# Altium schematic symbol library HCPL-2211-300E.SchLib: 1 symbol
Pins are listed as number, name and electrical type; pins without a type are passive.

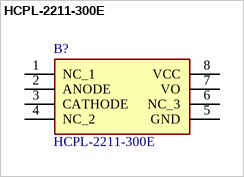
[diagram p0: symbol HCPL-2211-300E]

## HCPL-2211-300E
designator B?
Broadcom, HCPL-2211-300E DC Input Logic Gate Output Optocoupler, Surface Mount, 8-Pin DIP; Manufacturer_Name: Avago Technologies; Geometry.Height: 4.455mm; Manufacturer_Part_Number: HCPL-2211-300E; Mouser Part Number: 630-HCPL-2211-300E; Mouser Price/Stock: https://www.mouser.co.uk/ProductDetail/Broadcom-Avago/HCPL-2211-300E?qs=xnajaXqBF9%252BPSYdymxWXoA%3D%3D; Arrow Part Number: *; Arrow Price/Stock: *; Datasheet Link: https://docs.broadcom.com/doc/Very-High-CMR-Wide-VCC-Logic-Gate-Optocouplers-DS
footprint 6N137
pins: 1 NC_1, 2 ANODE, 3 CATHODE, 4 NC_2, 5 GND, 6 NC_3, 7 VO, 8 VCC